# Altium integrated library Maxim Digital Potentiometers.IntLib: 1045 symbols (part 1 of 42)
Pins are listed as number, name and electrical type; pins without a type are passive.

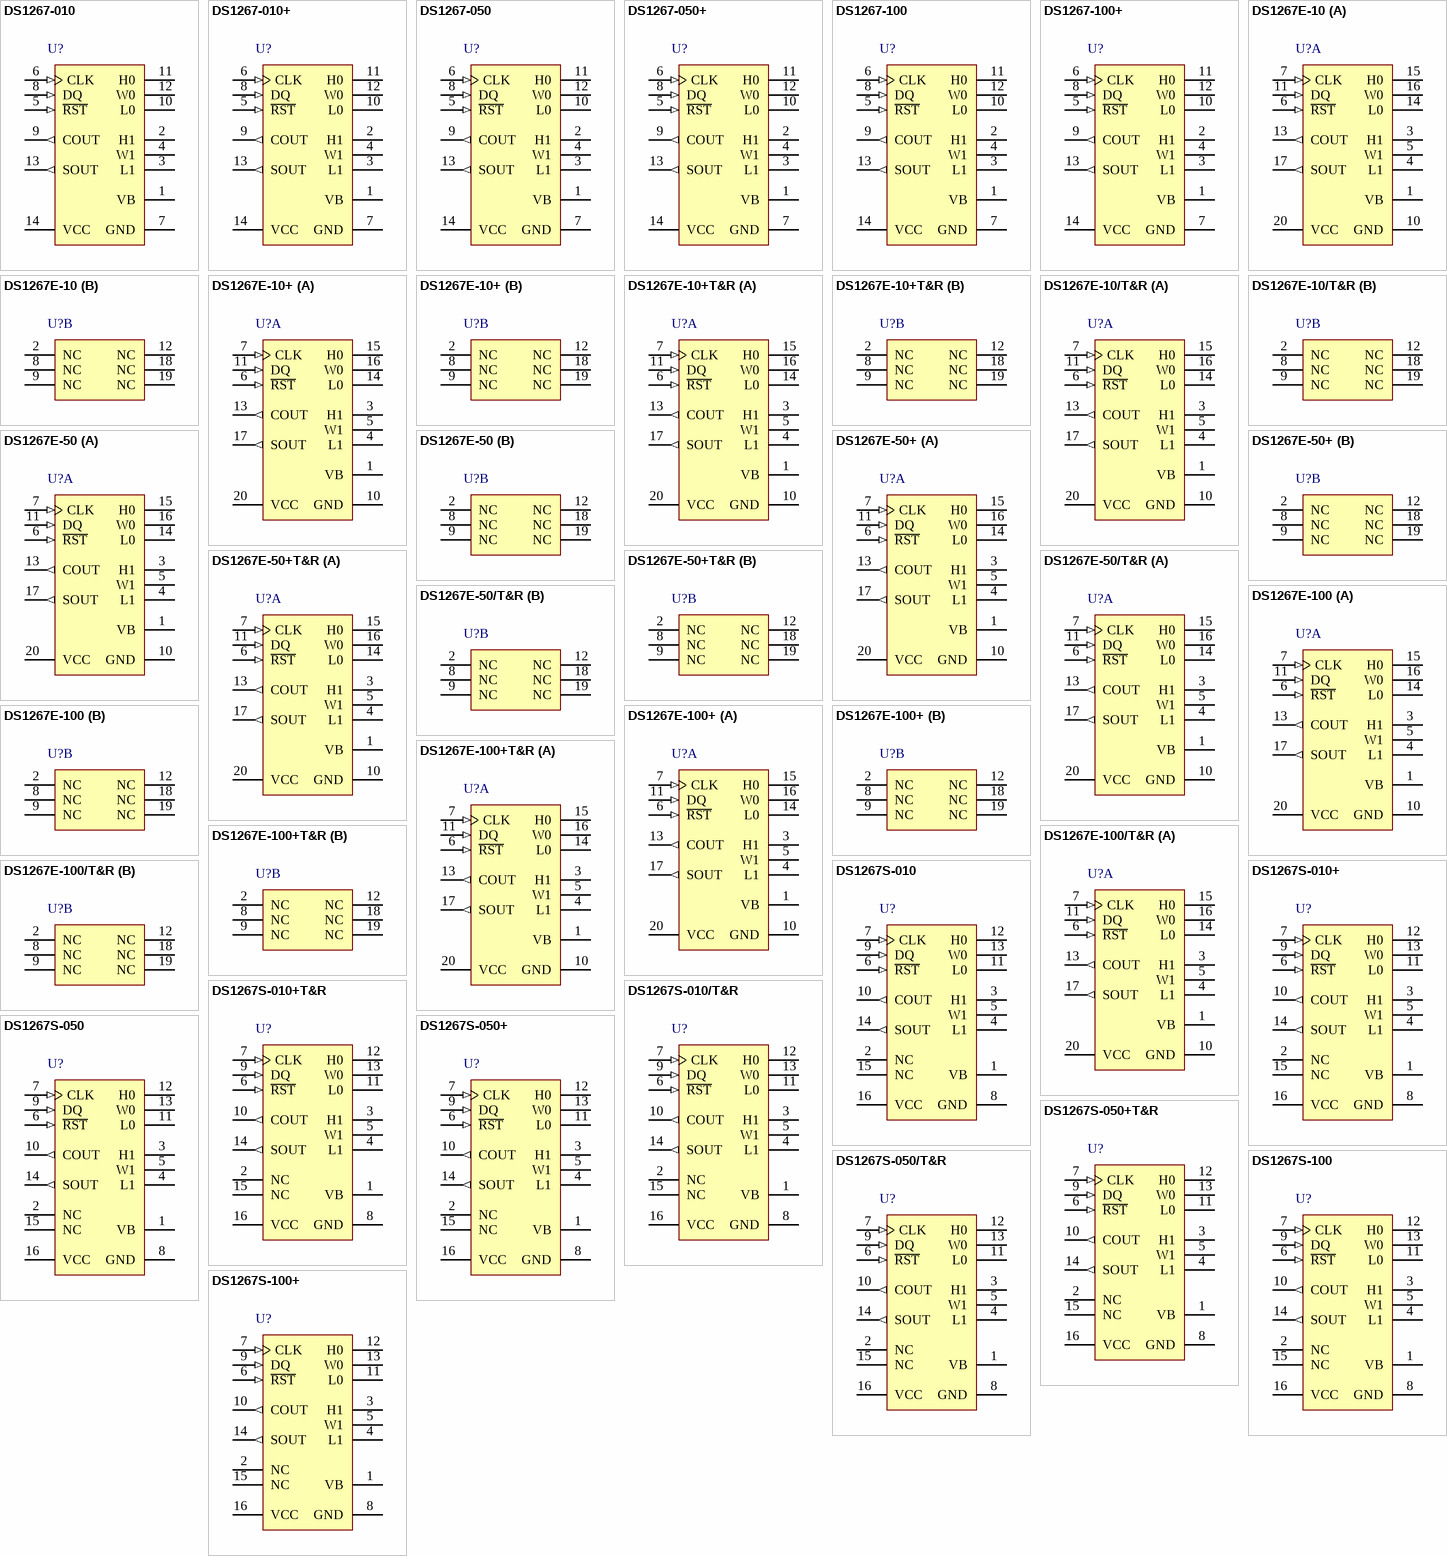
[diagram p0: symbols DS1267-010 to DS1267S-100+]

## DS1267-010
designator U?
Dual Digital Potentiometer Chip with 3-Wire Serial Control Interface, Volatile, Linear Taper, 256 Steps, -40 to 85 degC, PDIP (P14-4); PartNumber: DS1267-010; DatasheetVersion: Rev. 1; PackageVersion: Rev. E, 04/2011; PackageReference: P14-4; PackageDescription: 14-Pin Plastic Dual-In-Line, Narrow (0.3in) (P14-4), Body 19.05 x 6.985 mm, Pitch 2.54 mm; Supplier 1: Digi-Key; Supplier Part Number 1: DS1267-010-ND; Supplier 2: Mouser; Supplier Part Number 2: N/A; Control Interface: 3-Wire Serial; Mounting Technology: Through Hole; Code_JEDEC: MS001-XX; ComponentLink1Description: Manufacturer URL; ComponentLink1URL: http://www.maximintegrated.com/; ComponentLink2Description: Datasheet; ComponentLink2URL: http://datasheets.maximintegrated.com/en/ds/DS1267.pdf; ComponentLink3Description: Package Specification; ComponentLink3URL: http://pdfserv.maximintegrated.com/package_dwgs/21-0043.PDF
footprint MAXM-P14-4 (DIP, 14-Leads, Body 19.05x6.985mm, Pitch 2.54mm)
pins: 1 VB (power) "Substrate Bias Voltage", 2 H1 "High End of Resistor", 3 L1 "Low End of Resistor", 4 W1 "Wiper Terminal of Resistor", 5 ~{RST} (in) "Serial Port Reset Input", 6 CLK (in) "Serial Port Clock Input", 7 GND (power) "Ground", 8 DQ (in) "Serial Port Data Input", 9 COUT (out) "Cascade Port Output", 10 L0 "Low End of Resistor", 11 H0 "High End of Resistor", 12 W0 "Wiper Terminal of Resistor", 13 SOUT (out) "Stacked Configuration Output", 14 VCC (power) "+5 Volt Supply"

## DS1267-010+
designator U?
Dual Digital Potentiometer Chip with 3-Wire Serial Control Interface, Volatile, Linear Taper, 256 Steps, -40 to 85 degC, PDIP (P14+4), Pb-Free; PartNumber: DS1267-010+; DatasheetVersion: Rev. 1; PackageVersion: Rev. E, 04/2011; PackageReference: P14+4; PackageDescription: 14-Pin Plastic Dual-In-Line, Narrow (0.3in) (P14+4), Body 19.05 x 6.985 mm, Pitch 2.54 mm; Supplier 1: Digi-Key; Supplier Part Number 1: DS1267-010+-ND; Supplier 2: Farnell; Supplier Part Number 2: 9725890; Supplier 3: Newark; Supplier Part Number 3: 96K8865; Supplier 4: Newark; Supplier Part Number 4: 60K9226; Control Interface: 3-Wire Serial; Mounting Technology: Through Hole; Code_JEDEC: MS001-XX; ComponentLink1Description: Manufacturer URL; ComponentLink1URL: http://www.maximintegrated.com/; ComponentLink2Description: Datasheet; ComponentLink2URL: http://datasheets.maximintegrated.com/en/ds/DS1267.pdf; ComponentLink3Description: Package Specification; ComponentLink3URL: http://pdfserv.maximintegrated.com/package_dwgs/21-0043.PDF
footprint MAXM-P14+4 (DIP, 14-Leads, Body 19.05x6.985mm, Pitch 2.54mm)
pins: 1 VB (power) "Substrate Bias Voltage", 2 H1 "High End of Resistor", 3 L1 "Low End of Resistor", 4 W1 "Wiper Terminal of Resistor", 5 ~{RST} (in) "Serial Port Reset Input", 6 CLK (in) "Serial Port Clock Input", 7 GND (power) "Ground", 8 DQ (in) "Serial Port Data Input", 9 COUT (out) "Cascade Port Output", 10 L0 "Low End of Resistor", 11 H0 "High End of Resistor", 12 W0 "Wiper Terminal of Resistor", 13 SOUT (out) "Stacked Configuration Output", 14 VCC (power) "+5 Volt Supply"

## DS1267-050
designator U?
Dual Digital Potentiometer Chip with 3-Wire Serial Control Interface, Volatile, Linear Taper, 256 Steps, -40 to 85 degC, PDIP (P14-4); PartNumber: DS1267-050; DatasheetVersion: Rev. 1; PackageVersion: Rev. E, 04/2011; PackageReference: P14-4; PackageDescription: 14-Pin Plastic Dual-In-Line, Narrow (0.3in) (P14-4), Body 19.05 x 6.985 mm, Pitch 2.54 mm; Supplier 1: Digi-Key; Supplier Part Number 1: DS1267-050-ND; Supplier 2: Mouser; Supplier Part Number 2: N/A; Control Interface: 3-Wire Serial; Mounting Technology: Through Hole; Code_JEDEC: MS001-XX; ComponentLink1Description: Manufacturer URL; ComponentLink1URL: http://www.maximintegrated.com/; ComponentLink2Description: Datasheet; ComponentLink2URL: http://datasheets.maximintegrated.com/en/ds/DS1267.pdf; ComponentLink3Description: Package Specification; ComponentLink3URL: http://pdfserv.maximintegrated.com/package_dwgs/21-0043.PDF
footprint MAXM-P14-4 (DIP, 14-Leads, Body 19.05x6.985mm, Pitch 2.54mm)
pins: 1 VB (power) "Substrate Bias Voltage", 2 H1 "High End of Resistor", 3 L1 "Low End of Resistor", 4 W1 "Wiper Terminal of Resistor", 5 ~{RST} (in) "Serial Port Reset Input", 6 CLK (in) "Serial Port Clock Input", 7 GND (power) "Ground", 8 DQ (in) "Serial Port Data Input", 9 COUT (out) "Cascade Port Output", 10 L0 "Low End of Resistor", 11 H0 "High End of Resistor", 12 W0 "Wiper Terminal of Resistor", 13 SOUT (out) "Stacked Configuration Output", 14 VCC (power) "+5 Volt Supply"

## DS1267-050+
designator U?
Dual Digital Potentiometer Chip with 3-Wire Serial Control Interface, Volatile, Linear Taper, 256 Steps, -40 to 85 degC, PDIP (P14+4), Pb-Free; PartNumber: DS1267-050+; DatasheetVersion: Rev. 1; PackageVersion: Rev. E, 04/2011; PackageReference: P14+4; PackageDescription: 14-Pin Plastic Dual-In-Line, Narrow (0.3in) (P14+4), Body 19.05 x 6.985 mm, Pitch 2.54 mm; Supplier 1: Digi-Key; Supplier Part Number 1: DS1267-050+-ND; Supplier 2: Mouser; Supplier Part Number 2: 700-DS1267-050; Control Interface: 3-Wire Serial; Mounting Technology: Through Hole; Code_JEDEC: MS001-XX; ComponentLink1Description: Manufacturer URL; ComponentLink1URL: http://www.maximintegrated.com/; ComponentLink2Description: Datasheet; ComponentLink2URL: http://datasheets.maximintegrated.com/en/ds/DS1267.pdf; ComponentLink3Description: Package Specification; ComponentLink3URL: http://pdfserv.maximintegrated.com/package_dwgs/21-0043.PDF
footprint MAXM-P14+4 (DIP, 14-Leads, Body 19.05x6.985mm, Pitch 2.54mm)
pins: 1 VB (power) "Substrate Bias Voltage", 2 H1 "High End of Resistor", 3 L1 "Low End of Resistor", 4 W1 "Wiper Terminal of Resistor", 5 ~{RST} (in) "Serial Port Reset Input", 6 CLK (in) "Serial Port Clock Input", 7 GND (power) "Ground", 8 DQ (in) "Serial Port Data Input", 9 COUT (out) "Cascade Port Output", 10 L0 "Low End of Resistor", 11 H0 "High End of Resistor", 12 W0 "Wiper Terminal of Resistor", 13 SOUT (out) "Stacked Configuration Output", 14 VCC (power) "+5 Volt Supply"

## DS1267-100
designator U?
Dual Digital Potentiometer Chip with 3-Wire Serial Control Interface, Volatile, Linear Taper, 256 Steps, -40 to 85 degC, PDIP (P14-4); PartNumber: DS1267-100; DatasheetVersion: Rev. 1; PackageVersion: Rev. E, 04/2011; PackageReference: P14-4; PackageDescription: 14-Pin Plastic Dual-In-Line, Narrow (0.3in) (P14-4), Body 19.05 x 6.985 mm, Pitch 2.54 mm; Supplier 1: Digi-Key; Supplier Part Number 1: DS1267-100-ND; Supplier 2: Mouser; Supplier Part Number 2: N/A; Control Interface: 3-Wire Serial; Mounting Technology: Through Hole; Code_JEDEC: MS001-XX; ComponentLink1Description: Manufacturer URL; ComponentLink1URL: http://www.maximintegrated.com/; ComponentLink2Description: Datasheet; ComponentLink2URL: http://datasheets.maximintegrated.com/en/ds/DS1267.pdf; ComponentLink3Description: Package Specification; ComponentLink3URL: http://pdfserv.maximintegrated.com/package_dwgs/21-0043.PDF
footprint MAXM-P14-4 (DIP, 14-Leads, Body 19.05x6.985mm, Pitch 2.54mm)
pins: 1 VB (power) "Substrate Bias Voltage", 2 H1 "High End of Resistor", 3 L1 "Low End of Resistor", 4 W1 "Wiper Terminal of Resistor", 5 ~{RST} (in) "Serial Port Reset Input", 6 CLK (in) "Serial Port Clock Input", 7 GND (power) "Ground", 8 DQ (in) "Serial Port Data Input", 9 COUT (out) "Cascade Port Output", 10 L0 "Low End of Resistor", 11 H0 "High End of Resistor", 12 W0 "Wiper Terminal of Resistor", 13 SOUT (out) "Stacked Configuration Output", 14 VCC (power) "+5 Volt Supply"

## DS1267-100+
designator U?
Dual Digital Potentiometer Chip with 3-Wire Serial Control Interface, Volatile, Linear Taper, 256 Steps, -40 to 85 degC, PDIP (P14+4), Pb-Free; PartNumber: DS1267-100+; DatasheetVersion: Rev. 1; PackageVersion: Rev. E, 04/2011; PackageReference: P14+4; PackageDescription: 14-Pin Plastic Dual-In-Line, Narrow (0.3in) (P14+4), Body 19.05 x 6.985 mm, Pitch 2.54 mm; Supplier 1: Digi-Key; Supplier Part Number 1: DS1267-100+-ND; Supplier 2: Farnell; Supplier Part Number 2: 1306336; Supplier 3: Newark; Supplier Part Number 3: 26R5758; Supplier 4: Mouser; Supplier Part Number 4: 700-DS1267-100; Control Interface: 3-Wire Serial; Mounting Technology: Through Hole; Code_JEDEC: MS001-XX; ComponentLink1Description: Manufacturer URL; ComponentLink1URL: http://www.maximintegrated.com/; ComponentLink2Description: Datasheet; ComponentLink2URL: http://datasheets.maximintegrated.com/en/ds/DS1267.pdf; ComponentLink3Description: Package Specification; ComponentLink3URL: http://pdfserv.maximintegrated.com/package_dwgs/21-0043.PDF
footprint MAXM-P14+4 (DIP, 14-Leads, Body 19.05x6.985mm, Pitch 2.54mm)
pins: 1 VB (power) "Substrate Bias Voltage", 2 H1 "High End of Resistor", 3 L1 "Low End of Resistor", 4 W1 "Wiper Terminal of Resistor", 5 ~{RST} (in) "Serial Port Reset Input", 6 CLK (in) "Serial Port Clock Input", 7 GND (power) "Ground", 8 DQ (in) "Serial Port Data Input", 9 COUT (out) "Cascade Port Output", 10 L0 "Low End of Resistor", 11 H0 "High End of Resistor", 12 W0 "Wiper Terminal of Resistor", 13 SOUT (out) "Stacked Configuration Output", 14 VCC (power) "+5 Volt Supply"

## DS1267E-10
designator U?
Dual Digital Potentiometer Chip with 3-Wire Serial Control Interface, Volatile, Linear Taper, 256 Steps, -40 to 85 degC, 20-pin TSSOP (U20-1); PartNumber: DS1267E-10; DatasheetVersion: Rev. 1; PackageVersion: Rev. L, 07/2010; PackageReference: U20-1; PackageDescription: 20-Pin Thin Shrink Small-Outline Package (U20-1), Body 6.5 x 4.4 mm, Pitch 0.65 mm; Supplier 1: Digi-Key; Supplier Part Number 1: DS1267E-10-ND; Supplier 2: Mouser; Supplier Part Number 2: N/A; Control Interface: 3-Wire Serial; Mounting Technology: Surface Mount; Code_JEDEC: MO-153; ComponentLink1Description: Manufacturer URL; ComponentLink1URL: http://www.maximintegrated.com/; ComponentLink2Description: Datasheet; ComponentLink2URL: http://datasheets.maximintegrated.com/en/ds/DS1267.pdf; ComponentLink3Description: Package Specification; ComponentLink3URL: http://pdfserv.maximintegrated.com/package_dwgs/21-0066.PDF
footprint MAXM-U20-1_N (SOP, 20-Leads, Body 6.5x4.40mm, Pitch 0.65mm, IPC Medium Density)
footprint MAXM-U20-1_L (SOP, 20-Leads, Body 6.5x4.40mm, Pitch 0.65mm, IPC High Density)
footprint MAXM-U20-1_M (SOP, 20-Leads, Body 6.5x4.40mm, Pitch 0.65mm, IPC Low Density)
part A pins: 1 VB (power) "Substrate Bias Voltage", 3 H1 "High End of Resistor", 4 L1 "Low End of Resistor", 5 W1 "Wiper Terminal of Resistor", 6 ~{RST} (in) "Serial Port Reset Input", 7 CLK (in) "Serial Port Clock Input", 10 GND (power) "Ground", 11 DQ (in) "Serial Port Data Input", 13 COUT (out) "Cascade Port Output", 14 L0 "Low End of Resistor", 15 H0 "High End of Resistor", 16 W0 "Wiper Terminal of Resistor", 17 SOUT (out) "Stacked Configuration Output", 20 VCC (power) "+5 Volt Supply"
part B pins: 2 NC "No Internal Connection", 8 NC "No Internal Connection", 9 NC "No Internal Connection", 12 NC "No Internal Connection", 18 NC "No Internal Connection", 19 NC "No Internal Connection"

## DS1267E-10+
designator U?
Dual Digital Potentiometer Chip with 3-Wire Serial Control Interface, Volatile, Linear Taper, 256 Steps, -40 to 85 degC, 20-pin TSSOP (U20+1), Pb-Free; PartNumber: DS1267E-10+; DatasheetVersion: Rev. 1; PackageVersion: Rev. L, 07/2010; PackageReference: U20+1; PackageDescription: 20-Pin Thin Shrink Small-Outline Package (U20+1), Body 6.5 x4.4 mm, Pitch 0.65 mm; Supplier 1: Digi-Key; Supplier Part Number 1: DS1267E-10+-ND; Supplier 2: Newark; Supplier Part Number 2: 59J2513; Supplier 3: Mouser; Supplier Part Number 3: 700-DS1267E-10; Control Interface: 3-Wire Serial; Mounting Technology: Surface Mount; Code_JEDEC: MO-153; ComponentLink1Description: Manufacturer URL; ComponentLink1URL: http://www.maximintegrated.com/; ComponentLink2Description: Datasheet; ComponentLink2URL: http://datasheets.maximintegrated.com/en/ds/DS1267.pdf; ComponentLink3Description: Package Specification; ComponentLink3URL: http://pdfserv.maximintegrated.com/package_dwgs/21-0066.PDF
footprint MAXM-U20+1_N (SOP, 20-Leads, Body 6.5x4.4mm, Pitch 0.65mm, IPC Medium Density)
footprint MAXM-U20+1_L (SOP, 20-Leads, Body 6.5x4.4mm, Pitch 0.65mm, IPC High Density)
footprint MAXM-U20+1_M (SOP, 20-Leads, Body 6.5x4.4mm, Pitch 0.65mm, IPC Low Density)
part A pins: 1 VB (power) "Substrate Bias Voltage", 3 H1 "High End of Resistor", 4 L1 "Low End of Resistor", 5 W1 "Wiper Terminal of Resistor", 6 ~{RST} (in) "Serial Port Reset Input", 7 CLK (in) "Serial Port Clock Input", 10 GND (power) "Ground", 11 DQ (in) "Serial Port Data Input", 13 COUT (out) "Cascade Port Output", 14 L0 "Low End of Resistor", 15 H0 "High End of Resistor", 16 W0 "Wiper Terminal of Resistor", 17 SOUT (out) "Stacked Configuration Output", 20 VCC (power) "+5 Volt Supply"
part B pins: 2 NC "No Internal Connection", 8 NC "No Internal Connection", 9 NC "No Internal Connection", 12 NC "No Internal Connection", 18 NC "No Internal Connection", 19 NC "No Internal Connection"

## DS1267E-10+T&R
designator U?
Dual Digital Potentiometer Chip with 3-Wire Serial Control Interface, Volatile, Linear Taper, 256 Steps, -40 to 85 degC, 20-pin TSSOP (U20+1), Pb-Free, Tape and Reel; PartNumber: DS1267E-10+T&R; DatasheetVersion: Rev. 1; PackageVersion: Rev. L, 07/2010; PackageReference: U20+1; PackageDescription: 20-Pin Thin Shrink Small-Outline Package (U20+1), Body 6.5 x4.4 mm, Pitch 0.65 mm; Supplier 1: Digi-Key; Supplier Part Number 1: DS1267E-10+T&R-ND; Supplier 2: Mouser; Supplier Part Number 2: 700-DS1267E-10T&R; Control Interface: 3-Wire Serial; Mounting Technology: Surface Mount; Code_JEDEC: MO-153; ComponentLink1Description: Manufacturer URL; ComponentLink1URL: http://www.maximintegrated.com/; ComponentLink2Description: Datasheet; ComponentLink2URL: http://datasheets.maximintegrated.com/en/ds/DS1267.pdf; ComponentLink3Description: Package Specification; ComponentLink3URL: http://pdfserv.maximintegrated.com/package_dwgs/21-0066.PDF
footprint MAXM-U20+1_N (SOP, 20-Leads, Body 6.5x4.4mm, Pitch 0.65mm, IPC Medium Density)
footprint MAXM-U20+1_L (SOP, 20-Leads, Body 6.5x4.4mm, Pitch 0.65mm, IPC High Density)
footprint MAXM-U20+1_M (SOP, 20-Leads, Body 6.5x4.4mm, Pitch 0.65mm, IPC Low Density)
part A pins: 1 VB (power) "Substrate Bias Voltage", 3 H1 "High End of Resistor", 4 L1 "Low End of Resistor", 5 W1 "Wiper Terminal of Resistor", 6 ~{RST} (in) "Serial Port Reset Input", 7 CLK (in) "Serial Port Clock Input", 10 GND (power) "Ground", 11 DQ (in) "Serial Port Data Input", 13 COUT (out) "Cascade Port Output", 14 L0 "Low End of Resistor", 15 H0 "High End of Resistor", 16 W0 "Wiper Terminal of Resistor", 17 SOUT (out) "Stacked Configuration Output", 20 VCC (power) "+5 Volt Supply"
part B pins: 2 NC "No Internal Connection", 8 NC "No Internal Connection", 9 NC "No Internal Connection", 12 NC "No Internal Connection", 18 NC "No Internal Connection", 19 NC "No Internal Connection"

## DS1267E-10/T&R
designator U?
Dual Digital Potentiometer Chip with 3-Wire Serial Control Interface, Volatile, Linear Taper, 256 Steps, -40 to 85 degC, 20-pin TSSOP (U20-1), Tape and Reel; PartNumber: DS1267E-10/T&R; DatasheetVersion: Rev. 1; PackageVersion: Rev. L, 07/2010; PackageReference: U20-1; PackageDescription: 20-Pin Thin Shrink Small-Outline Package (U20-1), Body 6.5 x 4.4 mm, Pitch 0.65 mm; Supplier 1: Digi-Key; Supplier Part Number 1: DS1267E-10/T&R-ND; Supplier 2: Mouser; Supplier Part Number 2: N/A; Control Interface: 3-Wire Serial; Mounting Technology: Surface Mount; Code_JEDEC: MO-153; ComponentLink1Description: Manufacturer URL; ComponentLink1URL: http://www.maximintegrated.com/; ComponentLink2Description: Datasheet; ComponentLink2URL: http://datasheets.maximintegrated.com/en/ds/DS1267.pdf; ComponentLink3Description: Package Specification; ComponentLink3URL: http://pdfserv.maximintegrated.com/package_dwgs/21-0066.PDF
footprint MAXM-U20-1_N (SOP, 20-Leads, Body 6.5x4.40mm, Pitch 0.65mm, IPC Medium Density)
footprint MAXM-U20-1_L (SOP, 20-Leads, Body 6.5x4.40mm, Pitch 0.65mm, IPC High Density)
footprint MAXM-U20-1_M (SOP, 20-Leads, Body 6.5x4.40mm, Pitch 0.65mm, IPC Low Density)
part A pins: 1 VB (power) "Substrate Bias Voltage", 3 H1 "High End of Resistor", 4 L1 "Low End of Resistor", 5 W1 "Wiper Terminal of Resistor", 6 ~{RST} (in) "Serial Port Reset Input", 7 CLK (in) "Serial Port Clock Input", 10 GND (power) "Ground", 11 DQ (in) "Serial Port Data Input", 13 COUT (out) "Cascade Port Output", 14 L0 "Low End of Resistor", 15 H0 "High End of Resistor", 16 W0 "Wiper Terminal of Resistor", 17 SOUT (out) "Stacked Configuration Output", 20 VCC (power) "+5 Volt Supply"
part B pins: 2 NC "No Internal Connection", 8 NC "No Internal Connection", 9 NC "No Internal Connection", 12 NC "No Internal Connection", 18 NC "No Internal Connection", 19 NC "No Internal Connection"

## DS1267E-50
designator U?
Dual Digital Potentiometer Chip with 3-Wire Serial Control Interface, Volatile, Linear Taper, 256 Steps, -40 to 85 degC, 20-pin TSSOP (U20-1); PartNumber: DS1267E-50; DatasheetVersion: Rev. 1; PackageVersion: Rev. L, 07/2010; PackageReference: U20-1; PackageDescription: 20-Pin Thin Shrink Small-Outline Package (U20-1), Body 6.5 x 4.4 mm, Pitch 0.65 mm; Supplier 1: Digi-Key; Supplier Part Number 1: DS1267E-50-ND; Supplier 2: Mouser; Supplier Part Number 2: N/A; Control Interface: 3-Wire Serial; Mounting Technology: Surface Mount; Code_JEDEC: MO-153; ComponentLink1Description: Manufacturer URL; ComponentLink1URL: http://www.maximintegrated.com/; ComponentLink2Description: Datasheet; ComponentLink2URL: http://datasheets.maximintegrated.com/en/ds/DS1267.pdf; ComponentLink3Description: Package Specification; ComponentLink3URL: http://pdfserv.maximintegrated.com/package_dwgs/21-0066.PDF
footprint MAXM-U20-1_N (SOP, 20-Leads, Body 6.5x4.40mm, Pitch 0.65mm, IPC Medium Density)
footprint MAXM-U20-1_L (SOP, 20-Leads, Body 6.5x4.40mm, Pitch 0.65mm, IPC High Density)
footprint MAXM-U20-1_M (SOP, 20-Leads, Body 6.5x4.40mm, Pitch 0.65mm, IPC Low Density)
part A pins: 1 VB (power) "Substrate Bias Voltage", 3 H1 "High End of Resistor", 4 L1 "Low End of Resistor", 5 W1 "Wiper Terminal of Resistor", 6 ~{RST} (in) "Serial Port Reset Input", 7 CLK (in) "Serial Port Clock Input", 10 GND (power) "Ground", 11 DQ (in) "Serial Port Data Input", 13 COUT (out) "Cascade Port Output", 14 L0 "Low End of Resistor", 15 H0 "High End of Resistor", 16 W0 "Wiper Terminal of Resistor", 17 SOUT (out) "Stacked Configuration Output", 20 VCC (power) "+5 Volt Supply"
part B pins: 2 NC "No Internal Connection", 8 NC "No Internal Connection", 9 NC "No Internal Connection", 12 NC "No Internal Connection", 18 NC "No Internal Connection", 19 NC "No Internal Connection"

## DS1267E-50+
designator U?
Dual Digital Potentiometer Chip with 3-Wire Serial Control Interface, Volatile, Linear Taper, 256 Steps, -40 to 85 degC, 20-pin TSSOP (U20+1), Pb-Free; PartNumber: DS1267E-50+; DatasheetVersion: Rev. 1; PackageVersion: Rev. L, 07/2010; PackageReference: U20+1; PackageDescription: 20-Pin Thin Shrink Small-Outline Package (U20+1), Body 6.5 x4.4 mm, Pitch 0.65 mm; Supplier 1: Digi-Key; Supplier Part Number 1: DS1267E-50+-ND; Supplier 2: Mouser; Supplier Part Number 2: 700-DS1267E-50; Control Interface: 3-Wire Serial; Mounting Technology: Surface Mount; Code_JEDEC: MO-153; ComponentLink1Description: Manufacturer URL; ComponentLink1URL: http://www.maximintegrated.com/; ComponentLink2Description: Datasheet; ComponentLink2URL: http://datasheets.maximintegrated.com/en/ds/DS1267.pdf; ComponentLink3Description: Package Specification; ComponentLink3URL: http://pdfserv.maximintegrated.com/package_dwgs/21-0066.PDF
footprint MAXM-U20+1_N (SOP, 20-Leads, Body 6.5x4.4mm, Pitch 0.65mm, IPC Medium Density)
footprint MAXM-U20+1_L (SOP, 20-Leads, Body 6.5x4.4mm, Pitch 0.65mm, IPC High Density)
footprint MAXM-U20+1_M (SOP, 20-Leads, Body 6.5x4.4mm, Pitch 0.65mm, IPC Low Density)
part A pins: 1 VB (power) "Substrate Bias Voltage", 3 H1 "High End of Resistor", 4 L1 "Low End of Resistor", 5 W1 "Wiper Terminal of Resistor", 6 ~{RST} (in) "Serial Port Reset Input", 7 CLK (in) "Serial Port Clock Input", 10 GND (power) "Ground", 11 DQ (in) "Serial Port Data Input", 13 COUT (out) "Cascade Port Output", 14 L0 "Low End of Resistor", 15 H0 "High End of Resistor", 16 W0 "Wiper Terminal of Resistor", 17 SOUT (out) "Stacked Configuration Output", 20 VCC (power) "+5 Volt Supply"
part B pins: 2 NC "No Internal Connection", 8 NC "No Internal Connection", 9 NC "No Internal Connection", 12 NC "No Internal Connection", 18 NC "No Internal Connection", 19 NC "No Internal Connection"

## DS1267E-50+T&R
designator U?
Dual Digital Potentiometer Chip with 3-Wire Serial Control Interface, Volatile, Linear Taper, 256 Steps, -40 to 85 degC, 20-pin TSSOP (U20+1), Pb-Free, Tape and Reel; PartNumber: DS1267E-50+T&R; DatasheetVersion: Rev. 1; PackageVersion: Rev. L, 07/2010; PackageReference: U20+1; PackageDescription: 20-Pin Thin Shrink Small-Outline Package (U20+1), Body 6.5 x4.4 mm, Pitch 0.65 mm; Supplier 1: Digi-Key; Supplier Part Number 1: DS1267E-50+T&R-ND; Supplier 2: Mouser; Supplier Part Number 2: 700-DS1267E-50T&R; Control Interface: 3-Wire Serial; Mounting Technology: Surface Mount; Code_JEDEC: MO-153; ComponentLink1Description: Manufacturer URL; ComponentLink1URL: http://www.maximintegrated.com/; ComponentLink2Description: Datasheet; ComponentLink2URL: http://datasheets.maximintegrated.com/en/ds/DS1267.pdf; ComponentLink3Description: Package Specification; ComponentLink3URL: http://pdfserv.maximintegrated.com/package_dwgs/21-0066.PDF
footprint MAXM-U20+1_N (SOP, 20-Leads, Body 6.5x4.4mm, Pitch 0.65mm, IPC Medium Density)
footprint MAXM-U20+1_L (SOP, 20-Leads, Body 6.5x4.4mm, Pitch 0.65mm, IPC High Density)
footprint MAXM-U20+1_M (SOP, 20-Leads, Body 6.5x4.4mm, Pitch 0.65mm, IPC Low Density)
part A pins: 1 VB (power) "Substrate Bias Voltage", 3 H1 "High End of Resistor", 4 L1 "Low End of Resistor", 5 W1 "Wiper Terminal of Resistor", 6 ~{RST} (in) "Serial Port Reset Input", 7 CLK (in) "Serial Port Clock Input", 10 GND (power) "Ground", 11 DQ (in) "Serial Port Data Input", 13 COUT (out) "Cascade Port Output", 14 L0 "Low End of Resistor", 15 H0 "High End of Resistor", 16 W0 "Wiper Terminal of Resistor", 17 SOUT (out) "Stacked Configuration Output", 20 VCC (power) "+5 Volt Supply"
part B pins: 2 NC "No Internal Connection", 8 NC "No Internal Connection", 9 NC "No Internal Connection", 12 NC "No Internal Connection", 18 NC "No Internal Connection", 19 NC "No Internal Connection"

## DS1267E-50/T&R
designator U?
Dual Digital Potentiometer Chip with 3-Wire Serial Control Interface, Volatile, Linear Taper, 256 Steps, -40 to 85 degC, 20-pin TSSOP (U20-1), Tape and Reel; PartNumber: DS1267E-50/T&R; DatasheetVersion: Rev. 1; PackageVersion: Rev. L, 07/2010; PackageReference: U20-1; PackageDescription: 20-Pin Thin Shrink Small-Outline Package (U20-1), Body 6.5 x 4.4 mm, Pitch 0.65 mm; Supplier 1: Mouser; Supplier Part Number 1: N/A; Control Interface: 3-Wire Serial; Mounting Technology: Surface Mount; Code_JEDEC: MO-153; ComponentLink1Description: Manufacturer URL; ComponentLink1URL: http://www.maximintegrated.com/; ComponentLink2Description: Datasheet; ComponentLink2URL: http://datasheets.maximintegrated.com/en/ds/DS1267.pdf; ComponentLink3Description: Package Specification; ComponentLink3URL: http://pdfserv.maximintegrated.com/package_dwgs/21-0066.PDF
footprint MAXM-U20-1_N (SOP, 20-Leads, Body 6.5x4.40mm, Pitch 0.65mm, IPC Medium Density)
footprint MAXM-U20-1_L (SOP, 20-Leads, Body 6.5x4.40mm, Pitch 0.65mm, IPC High Density)
footprint MAXM-U20-1_M (SOP, 20-Leads, Body 6.5x4.40mm, Pitch 0.65mm, IPC Low Density)
part A pins: 1 VB (power) "Substrate Bias Voltage", 3 H1 "High End of Resistor", 4 L1 "Low End of Resistor", 5 W1 "Wiper Terminal of Resistor", 6 ~{RST} (in) "Serial Port Reset Input", 7 CLK (in) "Serial Port Clock Input", 10 GND (power) "Ground", 11 DQ (in) "Serial Port Data Input", 13 COUT (out) "Cascade Port Output", 14 L0 "Low End of Resistor", 15 H0 "High End of Resistor", 16 W0 "Wiper Terminal of Resistor", 17 SOUT (out) "Stacked Configuration Output", 20 VCC (power) "+5 Volt Supply"
part B pins: 2 NC "No Internal Connection", 8 NC "No Internal Connection", 9 NC "No Internal Connection", 12 NC "No Internal Connection", 18 NC "No Internal Connection", 19 NC "No Internal Connection"

## DS1267E-100
designator U?
Dual Digital Potentiometer Chip with 3-Wire Serial Control Interface, Volatile, Linear Taper, 256 Steps, -40 to 85 degC, 20-pin TSSOP (U20-1); PartNumber: DS1267E-100; DatasheetVersion: Rev. 1; PackageVersion: Rev. L, 07/2010; PackageReference: U20-1; PackageDescription: 20-Pin Thin Shrink Small-Outline Package (U20-1), Body 6.5 x 4.4 mm, Pitch 0.65 mm; Supplier 1: Digi-Key; Supplier Part Number 1: DS1267E-100-ND; Supplier 2: Mouser; Supplier Part Number 2: N/A; Control Interface: 3-Wire Serial; Mounting Technology: Surface Mount; Code_JEDEC: MO-153; ComponentLink1Description: Manufacturer URL; ComponentLink1URL: http://www.maximintegrated.com/; ComponentLink2Description: Datasheet; ComponentLink2URL: http://datasheets.maximintegrated.com/en/ds/DS1267.pdf; ComponentLink3Description: Package Specification; ComponentLink3URL: http://pdfserv.maximintegrated.com/package_dwgs/21-0066.PDF
footprint MAXM-U20-1_N (SOP, 20-Leads, Body 6.5x4.40mm, Pitch 0.65mm, IPC Medium Density)
footprint MAXM-U20-1_L (SOP, 20-Leads, Body 6.5x4.40mm, Pitch 0.65mm, IPC High Density)
footprint MAXM-U20-1_M (SOP, 20-Leads, Body 6.5x4.40mm, Pitch 0.65mm, IPC Low Density)
part A pins: 1 VB (power) "Substrate Bias Voltage", 3 H1 "High End of Resistor", 4 L1 "Low End of Resistor", 5 W1 "Wiper Terminal of Resistor", 6 ~{RST} (in) "Serial Port Reset Input", 7 CLK (in) "Serial Port Clock Input", 10 GND (power) "Ground", 11 DQ (in) "Serial Port Data Input", 13 COUT (out) "Cascade Port Output", 14 L0 "Low End of Resistor", 15 H0 "High End of Resistor", 16 W0 "Wiper Terminal of Resistor", 17 SOUT (out) "Stacked Configuration Output", 20 VCC (power) "+5 Volt Supply"
part B pins: 2 NC "No Internal Connection", 8 NC "No Internal Connection", 9 NC "No Internal Connection", 12 NC "No Internal Connection", 18 NC "No Internal Connection", 19 NC "No Internal Connection"

## DS1267E-100+
designator U?
Dual Digital Potentiometer Chip with 3-Wire Serial Control Interface, Volatile, Linear Taper, 256 Steps, -40 to 85 degC, 20-pin TSSOP (U20+1), Pb-Free; PartNumber: DS1267E-100+; DatasheetVersion: Rev. 1; PackageVersion: Rev. L, 07/2010; PackageReference: U20+1; PackageDescription: 20-Pin Thin Shrink Small-Outline Package (U20+1), Body 6.5 x4.4 mm, Pitch 0.65 mm; Supplier 1: Digi-Key; Supplier Part Number 1: DS1267E-100+-ND; Supplier 2: Mouser; Supplier Part Number 2: 700-DS1267E-100; Control Interface: 3-Wire Serial; Mounting Technology: Surface Mount; Code_JEDEC: MO-153; ComponentLink1Description: Manufacturer URL; ComponentLink1URL: http://www.maximintegrated.com/; ComponentLink2Description: Datasheet; ComponentLink2URL: http://datasheets.maximintegrated.com/en/ds/DS1267.pdf; ComponentLink3Description: Package Specification; ComponentLink3URL: http://pdfserv.maximintegrated.com/package_dwgs/21-0066.PDF
footprint MAXM-U20+1_N (SOP, 20-Leads, Body 6.5x4.4mm, Pitch 0.65mm, IPC Medium Density)
footprint MAXM-U20+1_L (SOP, 20-Leads, Body 6.5x4.4mm, Pitch 0.65mm, IPC High Density)
footprint MAXM-U20+1_M (SOP, 20-Leads, Body 6.5x4.4mm, Pitch 0.65mm, IPC Low Density)
part A pins: 1 VB (power) "Substrate Bias Voltage", 3 H1 "High End of Resistor", 4 L1 "Low End of Resistor", 5 W1 "Wiper Terminal of Resistor", 6 ~{RST} (in) "Serial Port Reset Input", 7 CLK (in) "Serial Port Clock Input", 10 GND (power) "Ground", 11 DQ (in) "Serial Port Data Input", 13 COUT (out) "Cascade Port Output", 14 L0 "Low End of Resistor", 15 H0 "High End of Resistor", 16 W0 "Wiper Terminal of Resistor", 17 SOUT (out) "Stacked Configuration Output", 20 VCC (power) "+5 Volt Supply"
part B pins: 2 NC "No Internal Connection", 8 NC "No Internal Connection", 9 NC "No Internal Connection", 12 NC "No Internal Connection", 18 NC "No Internal Connection", 19 NC "No Internal Connection"

## DS1267E-100+T&R
designator U?
Dual Digital Potentiometer Chip with 3-Wire Serial Control Interface, Volatile, Linear Taper, 256 Steps, -40 to 85 degC, 20-pin TSSOP (U20+1), Pb-Free, Tape and Reel; PartNumber: DS1267E-100+T&R; DatasheetVersion: Rev. 1; PackageVersion: Rev. L, 07/2010; PackageReference: U20+1; PackageDescription: 20-Pin Thin Shrink Small-Outline Package (U20+1), Body 6.5 x4.4 mm, Pitch 0.65 mm; Supplier 1: Digi-Key; Supplier Part Number 1: DS1267E-100+T&R-ND; Supplier 2: Mouser; Supplier Part Number 2: 700-DS1267E-100T&R; Control Interface: 3-Wire Serial; Mounting Technology: Surface Mount; Code_JEDEC: MO-153; ComponentLink1Description: Manufacturer URL; ComponentLink1URL: http://www.maximintegrated.com/; ComponentLink2Description: Datasheet; ComponentLink2URL: http://datasheets.maximintegrated.com/en/ds/DS1267.pdf; ComponentLink3Description: Package Specification; ComponentLink3URL: http://pdfserv.maximintegrated.com/package_dwgs/21-0066.PDF
footprint MAXM-U20+1_N (SOP, 20-Leads, Body 6.5x4.4mm, Pitch 0.65mm, IPC Medium Density)
footprint MAXM-U20+1_L (SOP, 20-Leads, Body 6.5x4.4mm, Pitch 0.65mm, IPC High Density)
footprint MAXM-U20+1_M (SOP, 20-Leads, Body 6.5x4.4mm, Pitch 0.65mm, IPC Low Density)
part A pins: 1 VB (power) "Substrate Bias Voltage", 3 H1 "High End of Resistor", 4 L1 "Low End of Resistor", 5 W1 "Wiper Terminal of Resistor", 6 ~{RST} (in) "Serial Port Reset Input", 7 CLK (in) "Serial Port Clock Input", 10 GND (power) "Ground", 11 DQ (in) "Serial Port Data Input", 13 COUT (out) "Cascade Port Output", 14 L0 "Low End of Resistor", 15 H0 "High End of Resistor", 16 W0 "Wiper Terminal of Resistor", 17 SOUT (out) "Stacked Configuration Output", 20 VCC (power) "+5 Volt Supply"
part B pins: 2 NC "No Internal Connection", 8 NC "No Internal Connection", 9 NC "No Internal Connection", 12 NC "No Internal Connection", 18 NC "No Internal Connection", 19 NC "No Internal Connection"

## DS1267E-100/T&R
designator U?
Dual Digital Potentiometer Chip with 3-Wire Serial Control Interface, Volatile, Linear Taper, 256 Steps, -40 to 85 degC, 20-pin TSSOP (U20-1), Tape and Reel; PartNumber: DS1267E-100/T&R; DatasheetVersion: Rev. 1; PackageVersion: Rev. L, 07/2010; PackageReference: U20-1; PackageDescription: 20-Pin Thin Shrink Small-Outline Package (U20-1), Body 6.5 x 4.4 mm, Pitch 0.65 mm; Supplier 1: Digi-Key; Supplier Part Number 1: DS1267E-100/T&R-ND; Supplier 2: Mouser; Supplier Part Number 2: N/A; Control Interface: 3-Wire Serial; Mounting Technology: Surface Mount; Code_JEDEC: MO-153; ComponentLink1Description: Manufacturer URL; ComponentLink1URL: http://www.maximintegrated.com/; ComponentLink2Description: Datasheet; ComponentLink2URL: http://datasheets.maximintegrated.com/en/ds/DS1267.pdf; ComponentLink3Description: Package Specification; ComponentLink3URL: http://pdfserv.maximintegrated.com/package_dwgs/21-0066.PDF
footprint MAXM-U20-1_N (SOP, 20-Leads, Body 6.5x4.40mm, Pitch 0.65mm, IPC Medium Density)
footprint MAXM-U20-1_L (SOP, 20-Leads, Body 6.5x4.40mm, Pitch 0.65mm, IPC High Density)
footprint MAXM-U20-1_M (SOP, 20-Leads, Body 6.5x4.40mm, Pitch 0.65mm, IPC Low Density)
part A pins: 1 VB (power) "Substrate Bias Voltage", 3 H1 "High End of Resistor", 4 L1 "Low End of Resistor", 5 W1 "Wiper Terminal of Resistor", 6 ~{RST} (in) "Serial Port Reset Input", 7 CLK (in) "Serial Port Clock Input", 10 GND (power) "Ground", 11 DQ (in) "Serial Port Data Input", 13 COUT (out) "Cascade Port Output", 14 L0 "Low End of Resistor", 15 H0 "High End of Resistor", 16 W0 "Wiper Terminal of Resistor", 17 SOUT (out) "Stacked Configuration Output", 20 VCC (power) "+5 Volt Supply"
part B pins: 2 NC "No Internal Connection", 8 NC "No Internal Connection", 9 NC "No Internal Connection", 12 NC "No Internal Connection", 18 NC "No Internal Connection", 19 NC "No Internal Connection"

## DS1267S-010
designator U?
Dual Digital Potentiometer Chip with 3-Wire Serial Control Interface, Volatile, Linear Taper, 256 Steps, -40 to 85 degC, 16-pin SOIC (W16-2); PartNumber: DS1267S-010; DatasheetVersion: Rev. 1; PackageVersion: Rev. F, 10/2012; PackageReference: W16-2; PackageDescription: 16-Pin Small-Outline IC, Wide (0.3in) (W16-2), Body 10.3 x 7.5 mm, Pitch 1.27 mm; Supplier 1: Digi-Key; Supplier Part Number 1: DS1267S-010-ND; Supplier 2: Mouser; Supplier Part Number 2: N/A; Control Interface: 3-Wire Serial; Mounting Technology: Surface Mount; Code_JEDEC: MS013; ComponentLink1Description: Manufacturer URL; ComponentLink1URL: http://www.maximintegrated.com/; ComponentLink2Description: Datasheet; ComponentLink2URL: http://datasheets.maximintegrated.com/en/ds/DS1267.pdf; ComponentLink3Description: Package Specification; ComponentLink3URL: http://pdfserv.maximintegrated.com/package_dwgs/21-0042.PDF
footprint MAXM-W16-2_N (SOIC, 16-Leads, Body 10.3x7.5mm, Pitch 1.27mm, IPC Medium Density)
footprint MAXM-W16-2_L (SOIC, 16-Leads, Body 10.3x7.5mm, Pitch 1.27mm, IPC High Density)
footprint MAXM-W16-2_M (SOIC, 16-Leads, Body 10.3x7.5mm, Pitch 1.27mm, IPC Low Density)
pins: 1 VB (power) "Substrate Bias Voltage", 2 NC "No Internal Connection", 3 H1 "High End of Resistor", 4 L1 "Low End of Resistor", 5 W1 "Wiper Terminal of Resistor", 6 ~{RST} (in) "Serial Port Reset Input", 7 CLK (in) "Serial Port Clock Input", 8 GND (power) "Ground Connections", 9 DQ (in) "Serial Port Data Input", 10 COUT (out) "Cascade Port Output", 11 L0 "Low End of Resistor", 12 H0 "High End of Resistor", 13 W0 "Wiper Terminal of Resistor", 14 SOUT (out) "Stacked Configuration Output", 15 NC "No Internal Connection", 16 VCC (power) "+5 Volt Supply"

## DS1267S-010+
designator U?
Dual Digital Potentiometer Chip with 3-Wire Serial Control Interface, Volatile, Linear Taper, 256 Steps, -40 to 85 degC, 16-pin SOIC (W16+2), Pb-Free; PartNumber: DS1267S-010+; DatasheetVersion: Rev. 1; PackageVersion: Rev. F, 10/2012; PackageReference: W16+2; PackageDescription: 16-Pin Small-Outline IC, Wide (0.3in) (W16+2), Body 10.3 x 7.5 mm, Pitch 1.27 mm; Supplier 1: Digi-Key; Supplier Part Number 1: DS1267S-010+-ND; Supplier 2: Farnell; Supplier Part Number 2: 9726306; Supplier 3: Newark; Supplier Part Number 3: 96K8862; Supplier 4: Mouser; Supplier Part Number 4: 700-DS1267S-010; Control Interface: 3-Wire Serial; Mounting Technology: Surface Mount; Code_JEDEC: MS013; ComponentLink1Description: Manufacturer URL; ComponentLink1URL: http://www.maximintegrated.com/; ComponentLink2Description: Datasheet; ComponentLink2URL: http://datasheets.maximintegrated.com/en/ds/DS1267.pdf; ComponentLink3Description: Package Specification; ComponentLink3URL: http://pdfserv.maximintegrated.com/package_dwgs/21-0042.PDF
footprint MAXM-W16+2_N (SOIC, 16-Leads, Body 10.3x7.5mm, Pitch 1.27mm, IPC Medium Density)
footprint MAXM-W16+2_L (SOIC, 16-Leads, Body 10.3x7.5mm, Pitch 1.27mm, IPC High Density)
footprint MAXM-W16+2_M (SOIC, 16-Leads, Body 10.3x7.5mm, Pitch 1.27mm, IPC Low Density)
pins: 1 VB (power) "Substrate Bias Voltage", 2 NC "No Internal Connection", 3 H1 "High End of Resistor", 4 L1 "Low End of Resistor", 5 W1 "Wiper Terminal of Resistor", 6 ~{RST} (in) "Serial Port Reset Input", 7 CLK (in) "Serial Port Clock Input", 8 GND (power) "Ground Connections", 9 DQ (in) "Serial Port Data Input", 10 COUT (out) "Cascade Port Output", 11 L0 "Low End of Resistor", 12 H0 "High End of Resistor", 13 W0 "Wiper Terminal of Resistor", 14 SOUT (out) "Stacked Configuration Output", 15 NC "No Internal Connection", 16 VCC (power) "+5 Volt Supply"

## DS1267S-010+T&R
designator U?
Dual Digital Potentiometer Chip with 3-Wire Serial Control Interface, Volatile, Linear Taper, 256 Steps, -40 to 85 degC, 16-pin SOIC (W16+2), Pb-Free, Tape and Reel; PartNumber: DS1267S-010+T&R; DatasheetVersion: Rev. 1; PackageVersion: Rev. F, 10/2012; PackageReference: W16+2; PackageDescription: 16-Pin Small-Outline IC, Wide (0.3in) (W16+2), Body 10.3 x 7.5 mm, Pitch 1.27 mm; Supplier 1: Digi-Key; Supplier Part Number 1: DS1267S-010+T&R-ND; Supplier 2: Mouser; Supplier Part Number 2: 700-DS1267S-010T&R; Control Interface: 3-Wire Serial; Mounting Technology: Surface Mount; Code_JEDEC: MS013; ComponentLink1Description: Manufacturer URL; ComponentLink1URL: http://www.maximintegrated.com/; ComponentLink2Description: Datasheet; ComponentLink2URL: http://datasheets.maximintegrated.com/en/ds/DS1267.pdf; ComponentLink3Description: Package Specification; ComponentLink3URL: http://pdfserv.maximintegrated.com/package_dwgs/21-0042.PDF
footprint MAXM-W16+2_N (SOIC, 16-Leads, Body 10.3x7.5mm, Pitch 1.27mm, IPC Medium Density)
footprint MAXM-W16+2_L (SOIC, 16-Leads, Body 10.3x7.5mm, Pitch 1.27mm, IPC High Density)
footprint MAXM-W16+2_M (SOIC, 16-Leads, Body 10.3x7.5mm, Pitch 1.27mm, IPC Low Density)
pins: 1 VB (power) "Substrate Bias Voltage", 2 NC "No Internal Connection", 3 H1 "High End of Resistor", 4 L1 "Low End of Resistor", 5 W1 "Wiper Terminal of Resistor", 6 ~{RST} (in) "Serial Port Reset Input", 7 CLK (in) "Serial Port Clock Input", 8 GND (power) "Ground Connections", 9 DQ (in) "Serial Port Data Input", 10 COUT (out) "Cascade Port Output", 11 L0 "Low End of Resistor", 12 H0 "High End of Resistor", 13 W0 "Wiper Terminal of Resistor", 14 SOUT (out) "Stacked Configuration Output", 15 NC "No Internal Connection", 16 VCC (power) "+5 Volt Supply"

## DS1267S-010/T&R
designator U?
Dual Digital Potentiometer Chip with 3-Wire Serial Control Interface, Volatile, Linear Taper, 256 Steps, -40 to 85 degC, 16-pin SOIC (W16-2), Tape and Reel; PartNumber: DS1267S-010/T&R; DatasheetVersion: Rev. 1; PackageVersion: Rev. F, 10/2012; PackageReference: W16-2; PackageDescription: 16-Pin Small-Outline IC, Wide (0.3in) (W16-2), Body 10.3 x 7.5 mm, Pitch 1.27 mm; Supplier 1: Digi-Key; Supplier Part Number 1: DS1267S-010/T&R-ND; Supplier 2: Mouser; Supplier Part Number 2: 700-DS1267S-010/TRNR; Control Interface: 3-Wire Serial; Mounting Technology: Surface Mount; Code_JEDEC: MS013; ComponentLink1Description: Manufacturer URL; ComponentLink1URL: http://www.maximintegrated.com/; ComponentLink2Description: Datasheet; ComponentLink2URL: http://datasheets.maximintegrated.com/en/ds/DS1267.pdf; ComponentLink3Description: Package Specification; ComponentLink3URL: http://pdfserv.maximintegrated.com/package_dwgs/21-0042.PDF
footprint MAXM-W16-2_N (SOIC, 16-Leads, Body 10.3x7.5mm, Pitch 1.27mm, IPC Medium Density)
footprint MAXM-W16-2_L (SOIC, 16-Leads, Body 10.3x7.5mm, Pitch 1.27mm, IPC High Density)
footprint MAXM-W16-2_M (SOIC, 16-Leads, Body 10.3x7.5mm, Pitch 1.27mm, IPC Low Density)
pins: 1 VB (power) "Substrate Bias Voltage", 2 NC "No Internal Connection", 3 H1 "High End of Resistor", 4 L1 "Low End of Resistor", 5 W1 "Wiper Terminal of Resistor", 6 ~{RST} (in) "Serial Port Reset Input", 7 CLK (in) "Serial Port Clock Input", 8 GND (power) "Ground Connections", 9 DQ (in) "Serial Port Data Input", 10 COUT (out) "Cascade Port Output", 11 L0 "Low End of Resistor", 12 H0 "High End of Resistor", 13 W0 "Wiper Terminal of Resistor", 14 SOUT (out) "Stacked Configuration Output", 15 NC "No Internal Connection", 16 VCC (power) "+5 Volt Supply"

## DS1267S-050
designator U?
Dual Digital Potentiometer Chip with 3-Wire Serial Control Interface, Volatile, Linear Taper, 256 Steps, -40 to 85 degC, 16-pin SOIC (W16-2); PartNumber: DS1267S-050; DatasheetVersion: Rev. 1; PackageVersion: Rev. F, 10/2012; PackageReference: W16-2; PackageDescription: 16-Pin Small-Outline IC, Wide (0.3in) (W16-2), Body 10.3 x 7.5 mm, Pitch 1.27 mm; Supplier 1: Digi-Key; Supplier Part Number 1: DS1267S-050-ND; Supplier 2: Mouser; Supplier Part Number 2: N/A; Control Interface: 3-Wire Serial; Mounting Technology: Surface Mount; Code_JEDEC: MS013; ComponentLink1Description: Manufacturer URL; ComponentLink1URL: http://www.maximintegrated.com/; ComponentLink2Description: Datasheet; ComponentLink2URL: http://datasheets.maximintegrated.com/en/ds/DS1267.pdf; ComponentLink3Description: Package Specification; ComponentLink3URL: http://pdfserv.maximintegrated.com/package_dwgs/21-0042.PDF
footprint MAXM-W16-2_N (SOIC, 16-Leads, Body 10.3x7.5mm, Pitch 1.27mm, IPC Medium Density)
footprint MAXM-W16-2_L (SOIC, 16-Leads, Body 10.3x7.5mm, Pitch 1.27mm, IPC High Density)
footprint MAXM-W16-2_M (SOIC, 16-Leads, Body 10.3x7.5mm, Pitch 1.27mm, IPC Low Density)
pins: 1 VB (power) "Substrate Bias Voltage", 2 NC "No Internal Connection", 3 H1 "High End of Resistor", 4 L1 "Low End of Resistor", 5 W1 "Wiper Terminal of Resistor", 6 ~{RST} (in) "Serial Port Reset Input", 7 CLK (in) "Serial Port Clock Input", 8 GND (power) "Ground Connections", 9 DQ (in) "Serial Port Data Input", 10 COUT (out) "Cascade Port Output", 11 L0 "Low End of Resistor", 12 H0 "High End of Resistor", 13 W0 "Wiper Terminal of Resistor", 14 SOUT (out) "Stacked Configuration Output", 15 NC "No Internal Connection", 16 VCC (power) "+5 Volt Supply"

## DS1267S-050+
designator U?
Dual Digital Potentiometer Chip with 3-Wire Serial Control Interface, Volatile, Linear Taper, 256 Steps, -40 to 85 degC, 16-pin SOIC (W16+2), Pb-Free; PartNumber: DS1267S-050+; DatasheetVersion: Rev. 1; PackageVersion: Rev. F, 10/2012; PackageReference: W16+2; PackageDescription: 16-Pin Small-Outline IC, Wide (0.3in) (W16+2), Body 10.3 x 7.5 mm, Pitch 1.27 mm; Supplier 1: Digi-Key; Supplier Part Number 1: DS1267S-050+-ND; Supplier 2: Farnell; Supplier Part Number 2: 9726284; Supplier 3: Newark; Supplier Part Number 3: 59J2518; Supplier 4: Mouser; Supplier Part Number 4: 700-DS1267S-050; Control Interface: 3-Wire Serial; Mounting Technology: Surface Mount; Code_JEDEC: MS013; ComponentLink1Description: Manufacturer URL; ComponentLink1URL: http://www.maximintegrated.com/; ComponentLink2Description: Datasheet; ComponentLink2URL: http://datasheets.maximintegrated.com/en/ds/DS1267.pdf; ComponentLink3Description: Package Specification; ComponentLink3URL: http://pdfserv.maximintegrated.com/package_dwgs/21-0042.PDF
footprint MAXM-W16+2_N (SOIC, 16-Leads, Body 10.3x7.5mm, Pitch 1.27mm, IPC Medium Density)
footprint MAXM-W16+2_L (SOIC, 16-Leads, Body 10.3x7.5mm, Pitch 1.27mm, IPC High Density)
footprint MAXM-W16+2_M (SOIC, 16-Leads, Body 10.3x7.5mm, Pitch 1.27mm, IPC Low Density)
pins: 1 VB (power) "Substrate Bias Voltage", 2 NC "No Internal Connection", 3 H1 "High End of Resistor", 4 L1 "Low End of Resistor", 5 W1 "Wiper Terminal of Resistor", 6 ~{RST} (in) "Serial Port Reset Input", 7 CLK (in) "Serial Port Clock Input", 8 GND (power) "Ground Connections", 9 DQ (in) "Serial Port Data Input", 10 COUT (out) "Cascade Port Output", 11 L0 "Low End of Resistor", 12 H0 "High End of Resistor", 13 W0 "Wiper Terminal of Resistor", 14 SOUT (out) "Stacked Configuration Output", 15 NC "No Internal Connection", 16 VCC (power) "+5 Volt Supply"

## DS1267S-050+T&R
designator U?
Dual Digital Potentiometer Chip with 3-Wire Serial Control Interface, Volatile, Linear Taper, 256 Steps, -40 to 85 degC, 16-pin SOIC (W16+2), Pb-Free, Tape and Reel; PartNumber: DS1267S-050+T&R; DatasheetVersion: Rev. 1; PackageVersion: Rev. F, 10/2012; PackageReference: W16+2; PackageDescription: 16-Pin Small-Outline IC, Wide (0.3in) (W16+2), Body 10.3 x 7.5 mm, Pitch 1.27 mm; Supplier 1: Digi-Key; Supplier Part Number 1: DS1267S-050+T&R-ND; Supplier 2: Mouser; Supplier Part Number 2: 700-DS1267S-050T&R; Control Interface: 3-Wire Serial; Mounting Technology: Surface Mount; Code_JEDEC: MS013; ComponentLink1Description: Manufacturer URL; ComponentLink1URL: http://www.maximintegrated.com/; ComponentLink2Description: Datasheet; ComponentLink2URL: http://datasheets.maximintegrated.com/en/ds/DS1267.pdf; ComponentLink3Description: Package Specification; ComponentLink3URL: http://pdfserv.maximintegrated.com/package_dwgs/21-0042.PDF
footprint MAXM-W16+2_N (SOIC, 16-Leads, Body 10.3x7.5mm, Pitch 1.27mm, IPC Medium Density)
footprint MAXM-W16+2_L (SOIC, 16-Leads, Body 10.3x7.5mm, Pitch 1.27mm, IPC High Density)
footprint MAXM-W16+2_M (SOIC, 16-Leads, Body 10.3x7.5mm, Pitch 1.27mm, IPC Low Density)
pins: 1 VB (power) "Substrate Bias Voltage", 2 NC "No Internal Connection", 3 H1 "High End of Resistor", 4 L1 "Low End of Resistor", 5 W1 "Wiper Terminal of Resistor", 6 ~{RST} (in) "Serial Port Reset Input", 7 CLK (in) "Serial Port Clock Input", 8 GND (power) "Ground Connections", 9 DQ (in) "Serial Port Data Input", 10 COUT (out) "Cascade Port Output", 11 L0 "Low End of Resistor", 12 H0 "High End of Resistor", 13 W0 "Wiper Terminal of Resistor", 14 SOUT (out) "Stacked Configuration Output", 15 NC "No Internal Connection", 16 VCC (power) "+5 Volt Supply"

## DS1267S-050/T&R
designator U?
Dual Digital Potentiometer Chip with 3-Wire Serial Control Interface, Volatile, Linear Taper, 256 Steps, -40 to 85 degC, 16-pin SOIC (W16-2), Tape and Reel; PartNumber: DS1267S-050/T&R; DatasheetVersion: Rev. 1; PackageVersion: Rev. F, 10/2012; PackageReference: W16-2; PackageDescription: 16-Pin Small-Outline IC, Wide (0.3in) (W16-2), Body 10.3 x 7.5 mm, Pitch 1.27 mm; Supplier 1: Digi-Key; Supplier Part Number 1: DS1267S-050/T&R-ND; Supplier 2: Mouser; Supplier Part Number 2: N/A; Control Interface: 3-Wire Serial; Mounting Technology: Surface Mount; Code_JEDEC: MS013; ComponentLink1Description: Manufacturer URL; ComponentLink1URL: http://www.maximintegrated.com/; ComponentLink2Description: Datasheet; ComponentLink2URL: http://datasheets.maximintegrated.com/en/ds/DS1267.pdf; ComponentLink3Description: Package Specification; ComponentLink3URL: http://pdfserv.maximintegrated.com/package_dwgs/21-0042.PDF
footprint MAXM-W16-2_N (SOIC, 16-Leads, Body 10.3x7.5mm, Pitch 1.27mm, IPC Medium Density)
footprint MAXM-W16-2_L (SOIC, 16-Leads, Body 10.3x7.5mm, Pitch 1.27mm, IPC High Density)
footprint MAXM-W16-2_M (SOIC, 16-Leads, Body 10.3x7.5mm, Pitch 1.27mm, IPC Low Density)
pins: 1 VB (power) "Substrate Bias Voltage", 2 NC "No Internal Connection", 3 H1 "High End of Resistor", 4 L1 "Low End of Resistor", 5 W1 "Wiper Terminal of Resistor", 6 ~{RST} (in) "Serial Port Reset Input", 7 CLK (in) "Serial Port Clock Input", 8 GND (power) "Ground Connections", 9 DQ (in) "Serial Port Data Input", 10 COUT (out) "Cascade Port Output", 11 L0 "Low End of Resistor", 12 H0 "High End of Resistor", 13 W0 "Wiper Terminal of Resistor", 14 SOUT (out) "Stacked Configuration Output", 15 NC "No Internal Connection", 16 VCC (power) "+5 Volt Supply"

## DS1267S-100
designator U?
Dual Digital Potentiometer Chip with 3-Wire Serial Control Interface, Volatile, Linear Taper, 256 Steps, -40 to 85 degC, 16-pin SOIC (W16-2); PartNumber: DS1267S-100; DatasheetVersion: Rev. 1; PackageVersion: Rev. F, 10/2012; PackageReference: W16-2; PackageDescription: 16-Pin Small-Outline IC, Wide (0.3in) (W16-2), Body 10.3 x 7.5 mm, Pitch 1.27 mm; Supplier 1: Digi-Key; Supplier Part Number 1: DS1267S-100-ND; Supplier 2: Mouser; Supplier Part Number 2: N/A; Control Interface: 3-Wire Serial; Mounting Technology: Surface Mount; Code_JEDEC: MS013; ComponentLink1Description: Manufacturer URL; ComponentLink1URL: http://www.maximintegrated.com/; ComponentLink2Description: Datasheet; ComponentLink2URL: http://datasheets.maximintegrated.com/en/ds/DS1267.pdf; ComponentLink3Description: Package Specification; ComponentLink3URL: http://pdfserv.maximintegrated.com/package_dwgs/21-0042.PDF
footprint MAXM-W16-2_N (SOIC, 16-Leads, Body 10.3x7.5mm, Pitch 1.27mm, IPC Medium Density)
footprint MAXM-W16-2_L (SOIC, 16-Leads, Body 10.3x7.5mm, Pitch 1.27mm, IPC High Density)
footprint MAXM-W16-2_M (SOIC, 16-Leads, Body 10.3x7.5mm, Pitch 1.27mm, IPC Low Density)
pins: 1 VB (power) "Substrate Bias Voltage", 2 NC "No Internal Connection", 3 H1 "High End of Resistor", 4 L1 "Low End of Resistor", 5 W1 "Wiper Terminal of Resistor", 6 ~{RST} (in) "Serial Port Reset Input", 7 CLK (in) "Serial Port Clock Input", 8 GND (power) "Ground Connections", 9 DQ (in) "Serial Port Data Input", 10 COUT (out) "Cascade Port Output", 11 L0 "Low End of Resistor", 12 H0 "High End of Resistor", 13 W0 "Wiper Terminal of Resistor", 14 SOUT (out) "Stacked Configuration Output", 15 NC "No Internal Connection", 16 VCC (power) "+5 Volt Supply"